# Altium footprint library ATOF_Fuse_Pcb.PcbLib: 1 footprints
Each footprint in its own frame and in the unit in brackets; x right, y up, seen from the top. Pads: shape width x height; smd on the part's side, far side on the other; paste and mask are expansions set on the pad; w line width, h text height; cw(c..) or ccw(c..) is an arc to the next point about the centre after c.
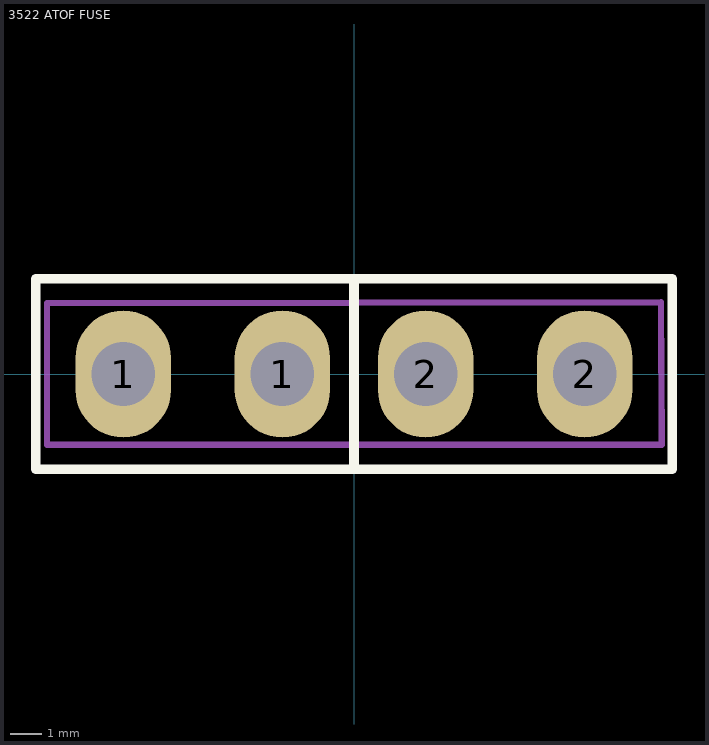
[diagram p0: the footprint, top view; thin cyan lines are the x and y axes]

## 3522 ATOF FUSE [mm]
pads (4):
  oval 3x4 hole 2: 1(-7.25,0) 1(-2.25,0) 2(2.25,0) 2(7.25,0)
Top Overlay:
  lines w0.3: 0,-3 0,3 ; -10,-3 10,-3 10,3 -10,3 -10,-3
Mechanical 13:
  lines w0.2: -9.65,-2.225 9.675,-2.225 9.65,2.25 -9.65,2.225 -9.65,-2.225
  text "'.Designator'" at -8.996,-0.746 h1.5
Mechanical 15:
  lines w0.2: -10,-3 10,-3 10,3 -10,3 -10,-3
3D body "3522-2-FUSE-3DModel-STEP-56544.STEP": height 7.63, standoff -3.47, extent -9.652,-2.223 9.652,2.222
3D body "User Library-fuse_gm.SLDPRT": height 21.39, standoff 2.01, extent -9.525,-2.54 9.525,2.54